# EAGLE library part SSW-110-S (library C3-Connector)
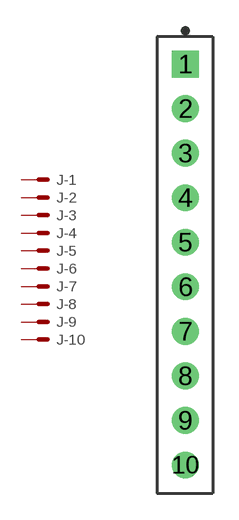
[diagram p17: symbol with the pads of SAMTEC_SSW-110-S; footprint SAMTEC_SSW-110-S]

Designator prefix J; gates -1=M -2=M -3=M -4=M -5=M -6=M -7=M -8=M -9=M -10=M

## SSW-110-S  [SAMTEC_SSW-110-S]
1  -1:S  pas
2  -2:S  pas
3  -3:S  pas
4  -4:S  pas
5  -5:S  pas
6  -6:S  pas
7  -7:S  pas
8  -8:S  pas
9  -9:S  pas
10  -10:S  pas

## Footprint SAMTEC_SSW-110-S (pad centres in mm)
drill 1.016 square: 1 0,10.16
drill 1.016: 2 0,7.62; 3 0,5.08; 4 0,2.54; 5 0,0; 6 0,-2.54; 7 0,-5.08; 8 0,-7.62; 9 0,-10.16; 10 0,-12.7